# EAGLE library part BOARD_CPLD_MAX!!_PLAZA (library mylib_20130829)
(Device name) : (Main function of the device) Packages : (Variant name1) : (Pitch) x (Pin) x (Width) (Variant name2) : (Pitch) x (Pin) x (Width) (Variant name3) : (Pitch) x (Pin) x (Width) ...
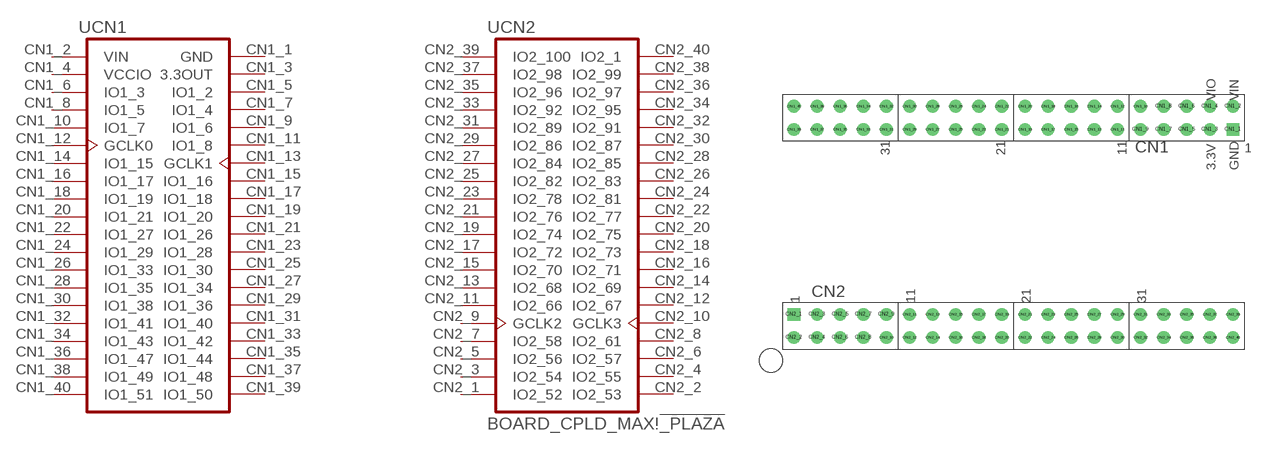
[diagram p92: symbol with the pads of BOARD_CPLD_MAX!!_PLAZA; footprint BOARD_CPLD_MAX!!_PLAZA]

Designator prefix -; gates CN1=BOARD_CPLD_MAX!!_PLAZA_CN1 CN2=BOARD_CPLD_MAX!!_PLAZA_CN2

## BOARD_CPLD_MAX!!_PLAZA  [BOARD_CPLD_MAX!!_PLAZA]
CN1_1  CN1:GND  pwr
CN1_2  CN1:VIN  pwr
CN1_3  CN1:3.3OUT  pwr
CN1_4  CN1:VCCIO  pwr
CN1_5  CN1:IO1_2
CN1_6  CN1:IO1_3
CN1_7  CN1:IO1_4
CN1_8  CN1:IO1_5
CN1_9  CN1:IO1_6
CN1_10  CN1:IO1_7
CN1_11  CN1:IO1_8
CN1_12  CN1:GCLK0
CN1_13  CN1:GCLK1
CN1_14  CN1:IO1_15
CN1_15  CN1:IO1_16
CN1_16  CN1:IO1_17
CN1_17  CN1:IO1_18
CN1_18  CN1:IO1_19
CN1_19  CN1:IO1_20
CN1_20  CN1:IO1_21
CN1_21  CN1:IO1_26
CN1_22  CN1:IO1_27
CN1_23  CN1:IO1_28
CN1_24  CN1:IO1_29
CN1_25  CN1:IO1_30
CN1_26  CN1:IO1_33
CN1_27  CN1:IO1_34
CN1_28  CN1:IO1_35
CN1_29  CN1:IO1_36
CN1_30  CN1:IO1_38
CN1_31  CN1:IO1_40
CN1_32  CN1:IO1_41
CN1_33  CN1:IO1_42
CN1_34  CN1:IO1_43
CN1_35  CN1:IO1_44
CN1_36  CN1:IO1_47
CN1_37  CN1:IO1_48
CN1_38  CN1:IO1_49
CN1_39  CN1:IO1_50
CN1_40  CN1:IO1_51
CN2_1  CN2:IO2_52
CN2_2  CN2:IO2_53
CN2_3  CN2:IO2_54
CN2_4  CN2:IO2_55
CN2_5  CN2:IO2_56
CN2_6  CN2:IO2_57
CN2_7  CN2:IO2_58
CN2_8  CN2:IO2_61
CN2_9  CN2:GCLK2  in
CN2_10  CN2:GCLK3  in
CN2_11  CN2:IO2_66
CN2_12  CN2:IO2_67
CN2_13  CN2:IO2_68
CN2_14  CN2:IO2_69
CN2_15  CN2:IO2_70
CN2_16  CN2:IO2_71
CN2_17  CN2:IO2_72
CN2_18  CN2:IO2_73
CN2_19  CN2:IO2_74
CN2_20  CN2:IO2_75
CN2_21  CN2:IO2_76
CN2_22  CN2:IO2_77
CN2_23  CN2:IO2_78
CN2_24  CN2:IO2_81
CN2_25  CN2:IO2_82
CN2_26  CN2:IO2_83
CN2_27  CN2:IO2_84
CN2_28  CN2:IO2_85
CN2_29  CN2:IO2_86
CN2_30  CN2:IO2_87
CN2_31  CN2:IO2_89
CN2_32  CN2:IO2_91
CN2_33  CN2:IO2_92
CN2_34  CN2:IO2_95
CN2_35  CN2:IO2_96
CN2_36  CN2:IO2_97
CN2_37  CN2:IO2_98
CN2_38  CN2:IO2_99
CN2_39  CN2:IO2_100
CN2_40  CN2:IO2_1

## Footprint BOARD_CPLD_MAX!!_PLAZA (pad centres in mm)
drill 0.889 square: CN1_1 50.8,25.4; CN2_1 2.54,5.08
drill 0.889: CN1_2 50.8,27.94; CN1_3 48.26,25.4; CN1_4 48.26,27.94; CN1_5 45.72,25.4; CN1_6 45.72,27.94; CN1_7 43.18,25.4; CN1_8 43.18,27.94; CN1_9 40.64,25.4; CN1_10 40.64,27.94; CN1_11 38.1,25.4; CN1_12 38.1,27.94; CN1_13 35.56,25.4; CN1_14 35.56,27.94; CN1_15 33.02,25.4; CN1_16 33.02,27.94; CN1_17 30.48,25.4; CN1_18 30.48,27.94; CN1_19 27.94,25.4; CN1_20 27.94,27.94; CN1_21 25.4,25.4; CN1_22 25.4,27.94; CN1_23 22.86,25.4; CN1_24 22.86,27.94; CN1_25 20.32,25.4; CN1_26 20.32,27.94; CN1_27 17.78,25.4; CN1_28 17.78,27.94; CN1_29 15.24,25.4; CN1_30 15.24,27.94; CN1_31 12.7,25.4; CN1_32 12.7,27.94; CN1_33 10.16,25.4; CN1_34 10.16,27.94; CN1_35 7.62,25.4; CN1_36 7.62,27.94; CN1_37 5.08,25.4; CN1_38 5.08,27.94; CN1_39 2.54,25.4; CN1_40 2.54,27.94; CN2_2 2.54,2.54; CN2_3 5.08,5.08; CN2_4 5.08,2.54; CN2_5 7.62,5.08; CN2_6 7.62,2.54; CN2_7 10.16,5.08; CN2_8 10.16,2.54; CN2_9 12.7,5.08; CN2_10 12.7,2.54; CN2_11 15.24,5.08; CN2_12 15.24,2.54; CN2_13 17.78,5.08; CN2_14 17.78,2.54; CN2_15 20.32,5.08; CN2_16 20.32,2.54; CN2_17 22.86,5.08; CN2_18 22.86,2.54; CN2_19 25.4,5.08; CN2_20 25.4,2.54; CN2_21 27.94,5.08; CN2_22 27.94,2.54; CN2_23 30.48,5.08; CN2_24 30.48,2.54; CN2_25 33.02,5.08; CN2_26 33.02,2.54; CN2_27 35.56,5.08; CN2_28 35.56,2.54; CN2_29 38.1,5.08; CN2_30 38.1,2.54; CN2_31 40.64,5.08; CN2_32 40.64,2.54; CN2_33 43.18,5.08; CN2_34 43.18,2.54; CN2_35 45.72,5.08; CN2_36 45.72,2.54; CN2_37 48.26,5.08; CN2_38 48.26,2.54; CN2_39 50.8,5.08; CN2_40 50.8,2.54